# Altium footprint library Passive.PcbLib: 57 footprints (part 2 of 4)
Each footprint in its own frame and in the unit in brackets; x right, y up, seen from the top. Pads: shape width x height; smd on the part's side, far side on the other; paste and mask are expansions set on the pad; w line width, h text height; cw(c..) or ccw(c..) is an arc to the next point about the centre after c.
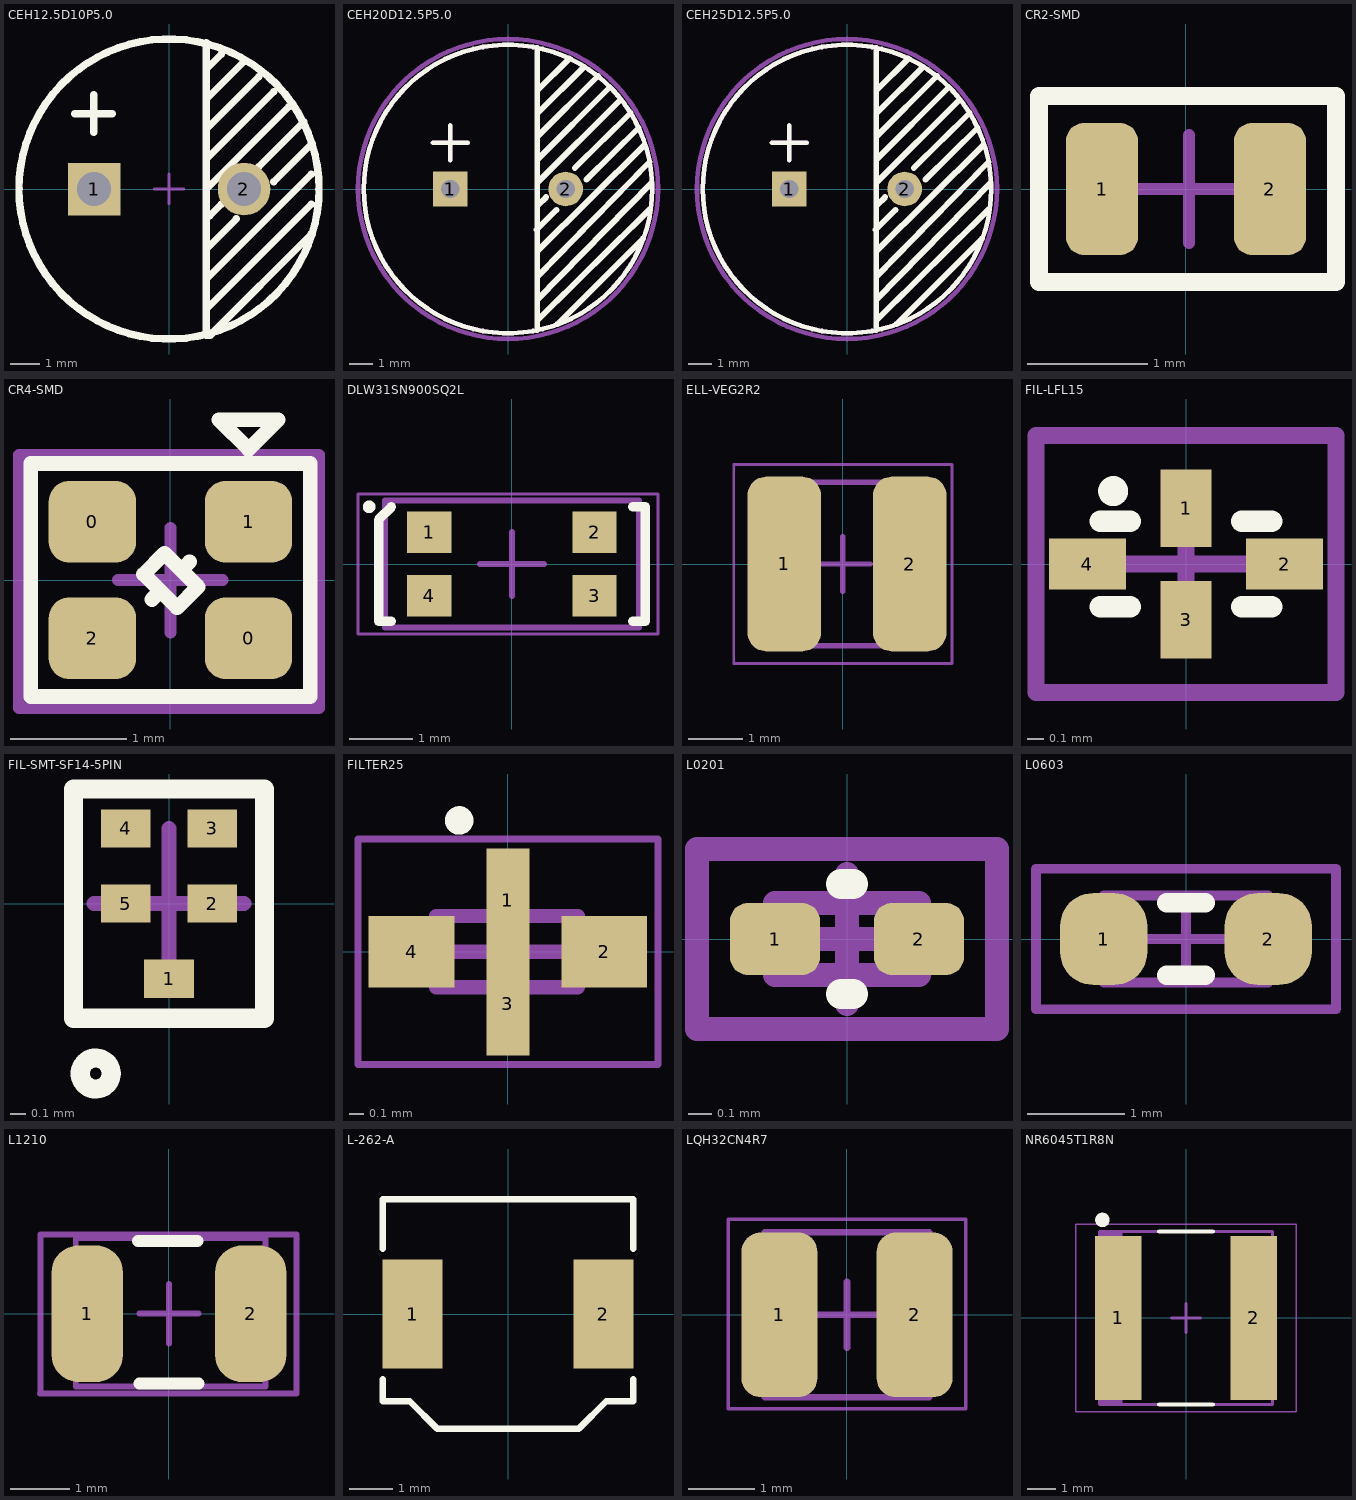
[diagram p1: the footprints below, top view; thin cyan lines are the x and y axes]

## CEH12.5D10P5.0 [mil] "Electrolytic capacitor 12.5x10x5 mm"
height 492.13
pads (2):
  rect 70x70 hole 45: 1(-100,0)
  round 70 hole 45: 2(100,0)
Top Overlay:
  circle w10: c0,0 r200
  lines w10: -125.39,100.39 -75.39,100.39 ; -100.39,75.39 -100.39,125.39 ; 50,-160 190,-20 ; 50,-120 190,20 ; 50,-80 90,-40 ; 50,0 160,110 ; 50,40 140,130 ; 50,80 120,150 ; 50,120 100,170 ; 50,160 70,180 ; 50,195 50,-195 55,-195 190,-60 ; 54.64,-35.36 70,-20 ; 120,30 180,90 ; 140,10 190,60
Mechanical 13:
  circle w5: c0,0 r199.25
  text ".Designator" at -64.96,59.05 h19.68
Mechanical 15:
  circle w5: c0,0 r200
  lines w3.94: -19.68,0.04 19.69,0.04 ; 0,-19.65 0,19.72
3D body: height 492.13, standoff 0, extent -195.67,-196.46 196.48,196.46

## CEH20D12.5P5.0 [mm] "Electrolytic capacitor 20x12.5x5 mm"
height 20
pads (2):
  rect 1.5x1.5 hole 0.8: 1(-2.5,0)
  round 1.5 hole 0.8: 2(2.5,0)
Top Overlay:
  circle w0.2: c0,0 r6.25
  lines w0.2: -3.25,2 -1.75,2 ; -2.5,1.25 -2.5,2.75
  lines w0.254: 1.236,-1.766 2.105,-0.905 ; 1.27,-6.102 1.27,6.103 ; 1.27,-5.7 6.159,-0.858 ; 1.27,-4.8 6.229,0.271 ; 1.27,-3.8 6.129,1.169 ; 1.27,-2.7 5.907,1.892 ; 1.27,0 1.27,0.02 ; 1.27,0.27 4.85,3.85 ; 1.27,1 1.27,1.27 4.4,4.4 ; 1.27,2.27 3.9,4.9 ; 1.27,3.27 3.3,5.3 ; 1.27,4.27 2.65,5.65 ; 1.286,-0.716 1.653,-0.353 ; 2.15,-5.85 5.85,-2.15 ; 2.893,0.907 5.305,3.295 ; 3.395,0.405 5.656,2.644
Mechanical 13:
  circle w0.1: c2.5,0 r0.4
  circle w0.1: c-2.5,0 r0.4
  circle w0.2: c0,0 r6.25
  lines w0.2: -3.25,2 -1.75,2 ; -2.5,1.25 -2.5,2.75
  text ".Designator" at -1.75,1.3 h0.5
Mechanical 15:
  circle w0.2: c0,0 r6.5
3D body: height 20, standoff 0, extent -6.249,-6.249 6.249,6.249

## CEH25D12.5P5.0 [mm] "Electrolytic capacitor 25x10x5 mm"
height 12.5
pads (2):
  rect 1.5x1.5 hole 0.8: 1(-2.5,0)
  round 1.5 hole 0.8: 2(2.5,0)
Top Overlay:
  circle w0.2: c0,0 r6.25
  lines w0.2: -3.25,2 -1.75,2 ; -2.5,1.25 -2.5,2.75
  lines w0.254: 1.236,-1.766 2.105,-0.905 ; 1.27,-6.102 1.27,6.103 ; 1.27,-5.7 6.159,-0.858 ; 1.27,-4.8 6.229,0.271 ; 1.27,-3.8 6.129,1.169 ; 1.27,-2.7 5.907,1.892 ; 1.27,0 1.27,0.02 ; 1.27,0.27 4.85,3.85 ; 1.27,1 1.27,1.27 4.4,4.4 ; 1.27,2.27 3.9,4.9 ; 1.27,3.27 3.3,5.3 ; 1.27,4.27 2.65,5.65 ; 1.286,-0.716 1.653,-0.353 ; 2.15,-5.85 5.85,-2.15 ; 2.893,0.907 5.305,3.295 ; 3.395,0.405 5.656,2.644
Mechanical 13:
  circle w0.1: c2.5,0 r0.4
  circle w0.1: c-2.5,0 r0.4
  circle w0.2: c0,0 r6.25
  lines w0.2: -3.25,2 -1.75,2 ; -2.5,1.25 -2.5,2.75
  text ".Designator" at -1.75,1.3 h0.5
Mechanical 15:
  circle w0.2: c0,0 r6.5
3D body: height 20, standoff 0, extent -6.249,-6.249 6.249,6.249

## CR2-SMD [mm] "Crystal SMD"
height 0.6
pads (2):
  rrect50% 0.6x1.1 smd: 1(-0.7,0) 2(0.7,0)
Top Overlay:
  lines w0.15: -1.225,-0.775 1.25,-0.775 1.25,0.775 -1.225,0.775 -1.225,-0.775
Mechanical 13:
  lines w0.1: -1.225,-0.775 1.25,-0.775 1.25,0.775 -1.225,0.775 -1.225,-0.775
  text ".Designator" at -1.7,0.225 h0.5
Mechanical 15:
  lines w0.1: -0.426,0 0.474,0 ; 0.024,-0.45 0.024,0.45 ; -1.225,-0.775 1.25,-0.775 1.25,0.775 -1.225,0.775 -1.225,-0.775
3D body: height 0.55, standoff 0, extent -1.225,-0.775 1.25,0.775

## CR4-SMD [mm] "Crystal SMD 4-pin"
height 0.7
pads (4):
  rrect50% 0.75x0.7 smd: 0(-0.67,0.5) 0(0.67,-0.5) 1(0.67,0.5) 2(-0.67,-0.5)
Top Overlay:
  lines w0.127: -0.159,-0.167 -0.087,-0.095 ; 0.093,0.085 0.165,0.157 ; -1.2,-1 -1.2,1 1.2,1 1.2,-1 -1.2,-1 ; -0.23,0.049 -0.051,0.229 0.237,-0.059 0.057,-0.238 -0.23,0.049 ; 0.417,1.375 0.671,1.121 0.925,1.375 0.417,1.375
Mechanical 13:
  lines w0.1: -1.3,-1.1 1.275,-1.1 1.275,1.075 -1.3,1.075 -1.3,-1.1
  text ".Designator" at -1.778,0.635 h0.5
Mechanical 15:
  lines w0.1: -0.45,0 0.45,0 ; 0,-0.45 0,0.45 ; -1.2,-1 -1.2,1 1.2,1 1.2,-1 -1.2,-1
3D body: height 0.55, standoff 0, extent -1.2,-1 1.2,1

## DLW31SN900SQ2L [mm] "1206 Common Mode Choke Coil"
height 2.1
pads (4):
  rect 0.7x0.65 smd mask+0.09: 1(-1.3,0.5) 2(1.3,0.5) 3(1.3,-0.5) 4(-1.3,-0.5)
Top Overlay:
  circle w0.1: c-2.25,0.9 r0.05
  lines w0.15: -1.9,-0.9 -2.1,-0.9 -2.1,0.7 -1.9,0.9 ; 1.9,-0.9 2.1,-0.9 2.1,0.9 1.9,0.9 ; -1.9,0.9 -1.9,0.9
Mechanical 13:
  lines w0.1: -2,-1 2,-1 2,1 -2,1 -2,-1
  text ".Designator" at -1.835,-0.201 h0.5
Mechanical 15:
  lines w0.05: -2.425,-1.1 -2.425,1.1 2.3,1.1 2.3,-1.1 -2.425,-1.1
  lines w0.1: -0.5,0 0.5,0 ; 0,-0.5 0,0.5
3D body: height 2.1, standoff 0, extent -2,-1 2,1

## ELL-VEG2R2 [mm]
height 1.5
pads (2):
  rrect50% 1.35x3.2 smd: 1(-1.075,0) 2(1.225,0)
Mechanical 13:
  lines w0.1: -1.5,-1.5 -1.5,1.5 1.5,1.5 1.5,-1.5 -1.5,-1.5
Mechanical 15:
  lines w0.05: -2,-1.825 -2,1.825 2,1.825 2,-1.825 -2,-1.825
  lines w0.1: -0.5,0 0.5,0 ; 0,-0.5 0,0.5
3D body: height 1.5, standoff 0, extent -1.5,-1.5 1.5,1.5

## FIL-LFL15 [mil]
pads (4):
  rect 12x18 smd mask+2: 1(0,13) 3(0,-13)
  rect 18x12 smd paste-1 mask+2: 2(23,0) 4(-23,0)
Top Overlay:
  circle w5: c-17,17 r1
  lines w5: -20,-10 -13,-10 ; -20,10 -13,10 ; 13,-10 20,-10 ; 13,10 20,10
Mechanical 13:
  lines w3.94: -35,-30 -35,30 35,30 35,-30 -35,-30
  text ".Designator" at -68.89,41.18 h19.68
Mechanical 15:
  lines w1.97: -35,-30 -35,30 35,30 35,-30 -35,-30
  lines w3.94: -19.68,0 19.68,0 ; 0,-19.69 0,19.68
3D body: height 82.68, standoff 0, extent -35,-30 35,30

## FIL-SMT-SF14-5PIN [mil]
pads (5):
  rect 13x10 smd paste-1 mask+2: 1(0,-19.68) 2(11.32,0) 3(11.32,19.68) 4(-11.32,19.68) 5(-11.32,0)
Top Overlay:
  circle w5: c-19.18,-44.47 r4.05
  lines w5: -25,-30 25,-30 25,30 -25,30 -25,-30
Mechanical 13:
  lines w3.94: -25,-30 -25,30 25,30 25,-30 -25,-30
  text ".Designator" at -68.9,41.18 h19.68
Mechanical 15:
  lines w1.97: -25,-30 -25,30 25,30 25,-30 -25,-30
  lines w3.94: -19.68,0 19.68,0 ; 0,-19.69 0,19.68
3D body: height 82.68, standoff 0, extent -25,-30 25,30

## FILTER25 [mm]
height 0.7
pads (4):
  rect 0.3x0.725 smd mask+0.08: 1(0,0.361) 3(0,-0.364)
  rect 0.6x0.5 smd mask+0.08: 2(0.675,0) 4(-0.675,0)
Top Overlay:
  circle w0.1: c-0.341,0.919 r0.05
Mechanical 13:
  lines w0.1: -0.502,-0.25 -0.502,0.25 0.49,0.25 0.49,-0.25 -0.502,-0.25
Mechanical 15:
  lines w0.05: -1.05,-0.792 -1.05,0.79 1.052,0.79 1.052,-0.792 -1.05,-0.792
  lines w0.1: -0.4,0 0.4,0 ; 0,-0.4 0,0.4
3D body: height 0.7, standoff 0, extent -0.502,-0.25 0.49,0.25

## L0201 [mil]
pads (2):
  rrect50% 15x12 smd: 1(-12,0) 2(12,0)
Top Overlay:
  lines w5: -1,-9.15 1,-9.15 ; -1,9.15 1,9.15
Mechanical 13:
  lines w3.94: -12,-6 -12,6 12,6 12,-6 -12,-6
  text ".Designator" at -70,20 h19.68
Mechanical 15:
  lines w3.94: -10.83,0 10.83,0 ; 0,-10.83 0,10.83 ; -25,-15 -25,15 25,15 25,-15 -25,-15

## L0603 [mm] "Chip Resistor, 2-Leads, Body 1.6x0.8mm, IPC Medium Density"
height 0.55
pads (2):
  rrect75% 0.9x0.95 smd: 1(-0.85,0) 2(0.85,0)
Top Overlay:
  lines w0.2: -0.2,-0.375 0.2,-0.375 ; -0.2,0.375 0.2,0.375
Mechanical 13:
  lines w0.1: -0.85,-0.45 0.85,-0.45 0.85,0.45 -0.85,0.45 -0.85,-0.45
  text ".Designator" at -1.1,0.7 h0.5
Mechanical 15:
  lines w0.1: -0.45,0 0.45,0 ; 0,-0.45 0,0.45 ; -1.55,-0.725 1.55,-0.725 1.55,0.725 -1.55,0.725 -1.55,-0.725
3D body: height 0.45, standoff 0, extent -0.825,-0.4 0.775,0.4

## L1210 [mm] "Chip Resistor, 2-Leads, Body 2.0x1.3mm, IPC Medium Density"
height 0.6
pads (2):
  rrect75% 1.2x2.3 smd: 1(-1.375,0) 2(1.375,0)
Top Overlay:
  lines w0.2: -0.52,1.225 -0.02,1.225 0.48,1.225 ; -0.5,-1.175 0,-1.175 0.5,-1.175
Mechanical 13:
  lines w0.1: -1.57,-1.225 1.625,-1.225 1.625,1.275 -1.57,1.275 -1.57,-1.225
  text ".Designator" at -1.835,1.535 h0.5
Mechanical 15:
  lines w0.1: -2.17,-1.345 2.145,-1.345 2.145,1.335 -2.165,1.335 -2.165,-1.345 ; -0.5,0 0.5,0 ; 0,-0.5 0,0.5
3D body: height 1.9, standoff 0, extent -1.57,-1.225 1.63,1.275

## L-262-A [mil] "L-262-A"
pads (2):
  rect 55x100 smd: 1(-87.5,0) 2(87.5,0)
Top Overlay:
  lines w6: -115,-60 -115,-80 -90,-80 -65,-105 65,-105 90,-80 115,-80 115,-60 ; -115,60 -115,105 115,105 115,60
  text ".Designator" at -138.78,-93.5 h31

## LQH32CN4R7 [mm] "Inductor"
height 2
pads (2):
  rrect50% 1.15x2.5 smd: 1(-1.025,0) 2(1.025,0)
Mechanical 13:
  lines w0.1: -1.25,-1.25 -1.25,1.25 1.25,1.25 1.25,-1.25 -1.25,-1.25
Mechanical 15:
  lines w0.05: -1.8,-1.425 -1.8,1.45 1.8,1.45 1.8,-1.425 -1.8,-1.425
  lines w0.1: -0.5,0 0.5,0 ; 0,-0.5 0,0.5
3D body: height 2, standoff 0, extent -1.25,-1.25 1.25,1.25

## NR6045T1R8N [mm] "SMD Power Inductor"
height 4.5
pads (2):
  rect 1.6x5.7 smd: 1(-2.35,0) 2(2.35,0)
Top Overlay:
  circle w0.25: c-2.9,3.4 r0.125
  lines w0.15: -0.925,-3 0.925,-3 ; -0.925,3 0.925,3
Mechanical 13:
  rectangle: -3,-3 -2.193,3
  lines w0.1: -3,-3 3,-3 3,3 -3,3 -3,-3
  text ".Designator" at -1.785,-0.201 h0.5
Mechanical 15:
  lines w0.05: -3.825,-3.25 3.825,-3.25 3.825,3.25 -3.825,3.25 -3.825,-3.25
  lines w0.1: -0.5,0 0.5,0 ; 0,-0.5 0,0.5
3D body: height 4.5, standoff 0, extent -3,-3 3,3